# Altium schematic symbol library Components - 04.11.24 - 12.34.SchLib: 1 symbol
Pins are listed as number, name and electrical type; pins without a type are passive.

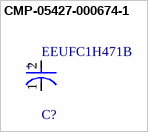
[diagram p0: symbol CMP-05427-000674-1]

## CMP-05427-000674-1
designator C?, comment EEUFC1H471B
Aluminum Electrolytic Capacitors (Radial Lead Type) AEC-Q200 Qualified 470uF ±20% 50V; Ripple Current: 1.832A; Leakage Current: 3uA; Impedance: 50mR; Lead Diameter: 0.6mm; Dielectric Material: Aluminium; Polarity: Polar; Life (Hours): 5000Hour; Series: FC; Voltage Rating (DC): 50V; Diameter: 12.5mm; Capacitance: 470uF; Height: 25mm; Lead Pitch: 5mm; Package Quantity: 500; Voltage: 50V; Max Operating Temperature: 105°C; Radiation Hardening: No; ESR (Equivalent Series Resistance): 50mR; Voltage Rating: 50V; Case/Package: Radial; Packaging: Tape and Reel; Construction: RADIAL; Ripple Current (AC): 1.832A; Contact Plating: Tin; Mount: Through Hole; Tolerance: 20%; RoHS Compliant: Yes; Length: 25mm; Min Operating Temperature: -55°C; Termination: Radial; Number of Pins: 2; REACH SVHC: No SVHC; Height - Seated (Max): 1.063inch
footprint FP-RAD-TH-D_12_5_0_5-L_25-MFG
pins: 1 C, 2 A
text: +